# Altium footprint library Public Library.PcbLib: 36 footprints (part 1 of 3)
Each footprint in its own frame and in the unit in brackets; x right, y up, seen from the top. Pads: shape width x height; smd on the part's side, far side on the other; paste and mask are expansions set on the pad; w line width, h text height; cw(c..) or ccw(c..) is an arc to the next point about the centre after c.
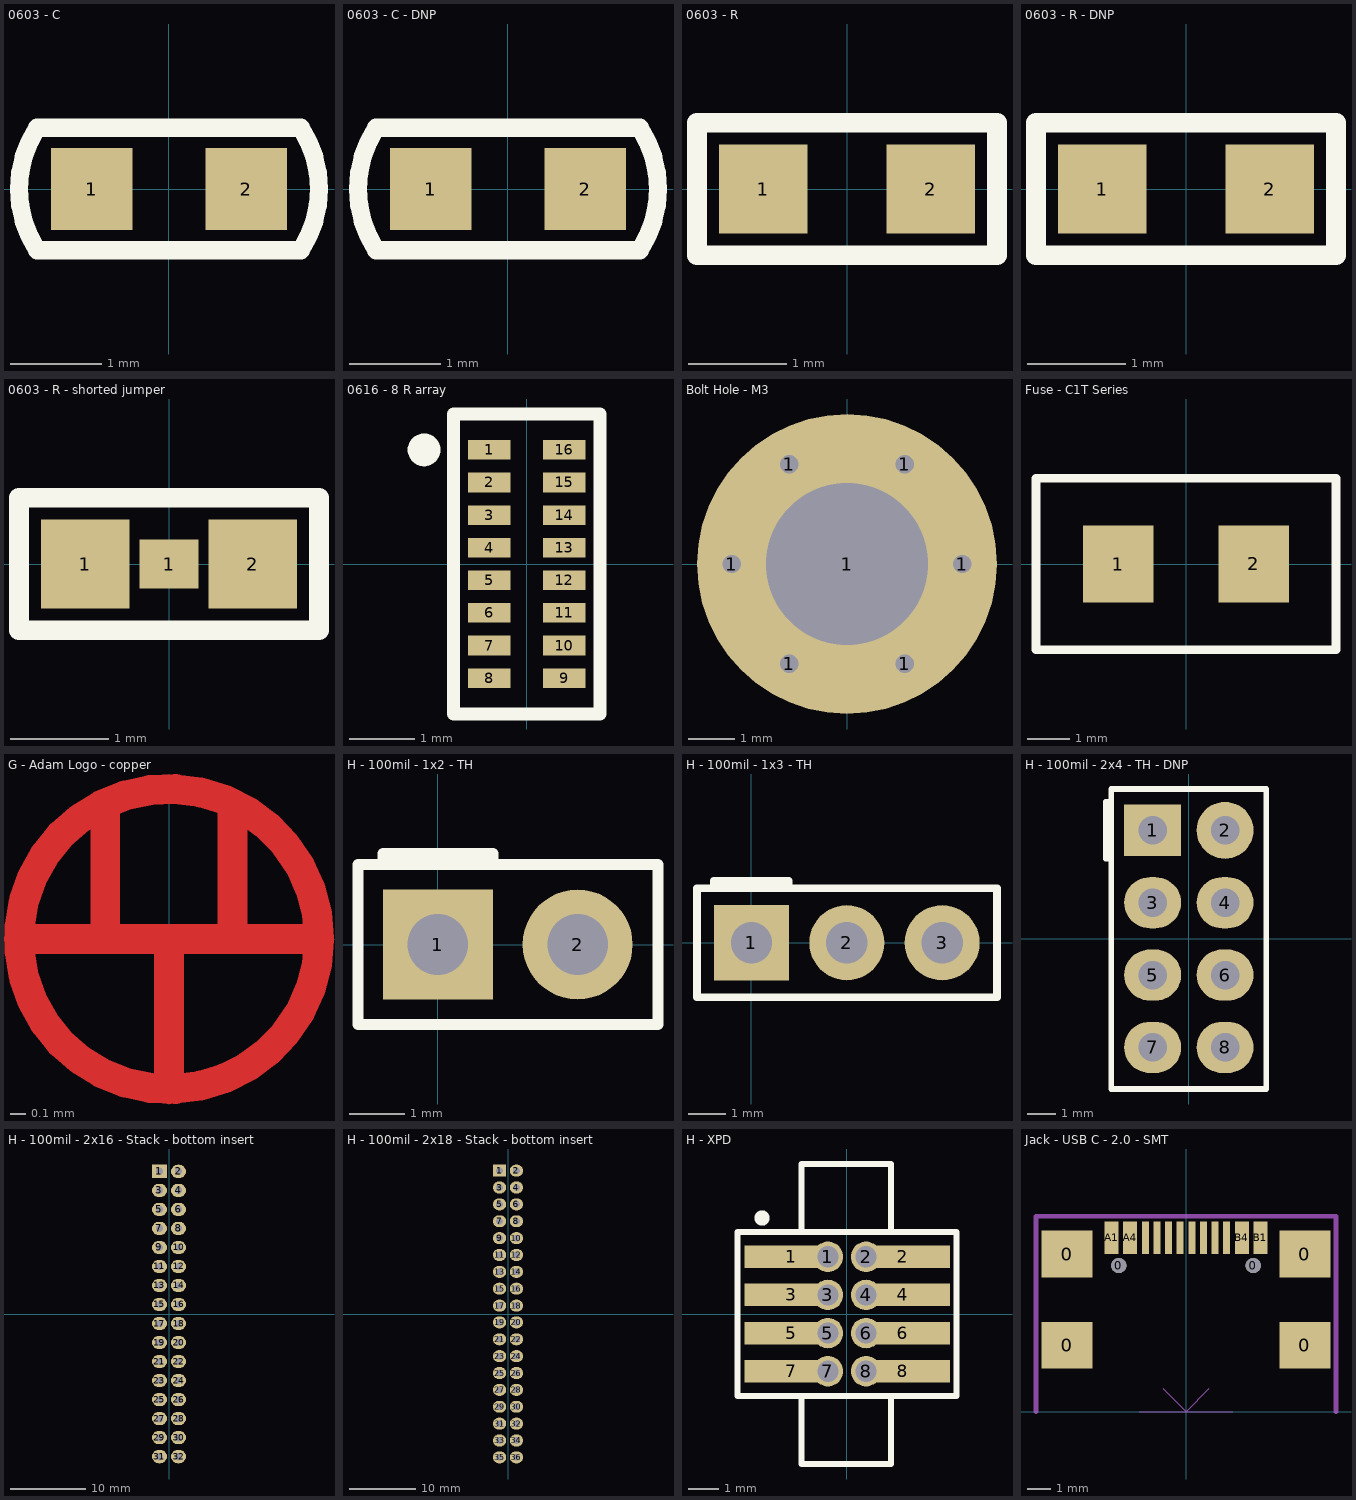
[diagram p0: the footprints below, top view; thin cyan lines are the x and y axes]

## 0603 - C [mm] "from Yageo R"
pads (2):
  rect 0.9x0.9 smd mask+0.05: 1(-0.85,0) 2(0.85,0)
Top Overlay:
  lines w0.2: -1.45,-0.675 cw(c-0.417,0) -1.45,0.675 1.45,0.675 cw(c0.417,0) 1.45,-0.675 -1.45,-0.675
3D body "ceramic_cap_0603.stp": height 0.85, standoff 0, extent -0.8,-0.4 0.8,0.4

## 0603 - C - DNP [mm] "from Yageo R"
pads (2):
  rect 0.9x0.9 smd mask+0.05: 1(-0.85,0) 2(0.85,0)
Top Overlay:
  lines w0.2: -1.45,-0.675 cw(c-0.417,0) -1.45,0.675 1.45,0.675 cw(c0.417,0) 1.45,-0.675 -1.45,-0.675

## 0603 - R [mm] "from Yageo"
pads (2):
  rect 0.9x0.9 smd mask+0.05: 1(-0.85,0) 2(0.85,0)
Top Overlay:
  lines w0.2: -1.525,-0.675 -1.525,0.675 1.525,0.675 1.525,-0.675 -1.525,-0.675
3D body "R 0603.step": height 0.4, standoff 0, extent -0.8,-0.4 0.8,0.4

## 0603 - R - DNP [mm] "from Yageo"
pads (2):
  rect 0.9x0.9 smd mask+0.05: 1(-0.85,0) 2(0.85,0)
Top Overlay:
  lines w0.2: -1.525,-0.675 -1.525,0.675 1.525,0.675 1.525,-0.675 -1.525,-0.675

## 0603 - R - shorted jumper [mm] "from Yageo"
pads (3):
  rect 0.9x0.9 smd mask+0.05: 1(-0.85,0) 2(0.85,0)
  rect 0.6x0.5 smd mask+0.1: 1(0,0)
Top Overlay:
  lines w0.2: -1.525,-0.675 1.525,-0.675 1.525,0.675 -1.525,0.675 -1.525,-0.675

## 0616 - 8 R array [mm] "from YC248J-100CT-ND"
pads (16):
  rect 0.65x0.3 smd mask+0.05: 1(-0.575,1.75) 2(-0.575,1.25) 3(-0.575,0.75) 4(-0.575,0.25) 5(-0.575,-0.25) 6(-0.575,-0.75) 7(-0.575,-1.25) 8(-0.575,-1.75) 9(0.575,-1.75) 10(0.575,-1.25) 11(0.575,-0.75) 12(0.575,-0.25) 13(0.575,0.25) 14(0.575,0.75) 15(0.575,1.25) 16(0.575,1.75)
Top Overlay:
  circle w0.254: c-1.575,1.75 r0.125
  lines w0.2: -1.125,-2.3 1.125,-2.3 1.125,2.3 -1.125,2.3 -1.125,-2.3
3D body "YC248.step": height 0.45, standoff 0, extent -0.8,-2 0.8,2

## Bolt Hole - M3 [mm]
pads (7):
  round 0.8 hole 0.4 mask+0.05: 1(-2.5,0) 1(-1.25,-2.165) 1(-1.25,2.165) 1(1.25,-2.165) 1(1.25,2.165) 1(2.5,0)
  round 6.5 hole 3.5 mask+0.05: 1(0,0)

## Fuse - C1T Series [mm]
pads (2):
  rect 1.64x1.8 smd mask+0.05: 1(-1.58,-0.001) 2(1.58,0.001)
Top Overlay:
  lines w0.2: -3.5,-2 -3.5,2 3.5,2 3.5,-2 -3.5,-2
3D body: height 0.83, standoff 0, extent -1.7,-0.89 1.7,0.89

## G - Adam Logo - copper [mm]
Top Layer:
  circle w0.2: c0,0 r1
  lines w0.2: -1,0 1,0 ; -0.425,0 -0.425,0.85 ; 0,-1 0,0 ; 0.425,0.025 0.425,0.85

## H - 100mil - 1x2 - TH [mm] "generic"
pads (2):
  rect 2x2 hole 1.1 mask+0.05: 1(0,0)
  round 2 hole 1.1 mask+0.05: 2(2.54,0)
Top Overlay:
  lines w0.2: -1,1.45 -1,1.65 1,1.65 1,1.45 ; -1,1.55 1,1.55 ; -1.45,-1.45 -1.45,1.45 4,1.45 4,-1.45 -1.45,-1.45
3D body "Pin Header 1x2 TH Pitch 2.54mm.stp": height 9.5, standoff -3.2, extent -1.27,-1.27 3.81,1.27

## H - 100mil - 1x3 - TH [mm] "generic"
pads (3):
  rect 2x2 hole 1.1 mask+0.05: 1(0,0)
  round 2 hole 1.1 mask+0.05: 2(2.54,0) 3(5.08,0)
Top Overlay:
  lines w0.2: -1,1.45 -1,1.65 1,1.65 1,1.45 ; -1,1.55 1,1.55 ; -1.45,-1.45 6.54,-1.45 6.54,1.45 -1.45,1.45 -1.45,-1.45
3D body "Pin Header 1x3 TH Pitch 2.54mm.stp": height 9.5, standoff -3.2, extent -1.27,-1.27 6.35,1.27

## H - 100mil - 2x4 - TH - DNP [mm] "generic"
pads (8):
  rect 2x1.8 hole 1 mask+0.05: 1(-1.27,3.81)
  round 2 hole 1 mask+0.05: 2(1.27,3.81)
  oval 2x1.8 hole 1 mask+0.05: 3(-1.27,1.27) 4(1.27,1.27) 5(-1.27,-1.27) 6(1.27,-1.27) 7(-1.27,-3.81) 8(1.27,-3.81)
Top Overlay:
  lines w0.2: -2.82,2.81 -2.82,4.81 ; -2.72,2.81 -2.92,2.81 -2.92,4.81 -2.72,4.81 ; -2.72,-5.27 -2.72,5.26 2.72,5.26 2.72,-5.27 -2.72,-5.27

## H - 100mil - 2x16 - Stack - bottom insert [mm]
pads (32):
  rect 2x1.8 hole 1 mask+0.05: 1(-1.27,19.05)
  oval 2x1.8 hole 1 mask+0.05: 2(1.27,19.05) 3(-1.27,16.51) 4(1.27,16.51) 5(-1.27,13.97) 6(1.27,13.97) 7(-1.27,11.43) 8(1.27,11.43) 9(-1.27,8.89) 10(1.27,8.89) 11(-1.27,6.35) 12(1.27,6.35) 13(-1.27,3.81) 14(1.27,3.81) 15(-1.27,1.27) 16(1.27,1.27) 17(-1.27,-1.27) 18(1.27,-1.27) 19(-1.27,-3.81) 20(1.27,-3.81) 21(-1.27,-6.35) 22(1.27,-6.35) 23(-1.27,-8.89) 24(1.27,-8.89) 25(-1.27,-11.43) 26(1.27,-11.43) 27(-1.27,-13.97) 28(1.27,-13.97) 29(-1.27,-16.51) 30(1.27,-16.51) 31(-1.27,-19.05) 32(1.27,-19.05)
3D body "SSQ-116-03-T-D.stp": height 8.31, standoff -10.21, extent -2.477,-20.574 2.477,20.574

## H - 100mil - 2x18 - Stack - bottom insert [mm]
pads (36):
  rect 2x1.8 hole 1 mask+0.05: 1(-1.27,21.59)
  oval 2x1.8 hole 1 mask+0.05: 2(1.27,21.59) 3(-1.27,19.05) 4(1.27,19.05) 5(-1.27,16.51) 6(1.27,16.51) 7(-1.27,13.97) 8(1.27,13.97) 9(-1.27,11.43) 10(1.27,11.43) 11(-1.27,8.89) 12(1.27,8.89) 13(-1.27,6.35) 14(1.27,6.35) 15(-1.27,3.81) 16(1.27,3.81) 17(-1.27,1.27) 18(1.27,1.27) 19(-1.27,-1.27) 20(1.27,-1.27) 21(-1.27,-3.81) 22(1.27,-3.81) 23(-1.27,-6.35) 24(1.27,-6.35) 25(-1.27,-8.89) 26(1.27,-8.89) 27(-1.27,-11.43) 28(1.27,-11.43) 29(-1.27,-13.97) 30(1.27,-13.97) 31(-1.27,-16.51) 32(1.27,-16.51) 33(-1.27,-19.05) 34(1.27,-19.05) 35(-1.27,-21.59) 36(1.27,-21.59)
3D body "SSQ-118-03-T-D.stp": height 8.31, standoff -10.21, extent -2.477,-23.114 2.477,23.114

## H - XPD [mm]
pads (16):
  rect 3.12x0.75 smd mask+0.05: 1(-1.865,1.905) 2(1.865,1.905) 3(-1.865,0.635) 4(1.865,0.635) 5(-1.865,-0.635) 6(1.865,-0.635) 7(-1.865,-1.905) 8(1.865,-1.905)
  round 1.016 hole 0.711 mask+0.05: 1(-0.635,1.905) 2(0.635,1.905) 3(-0.635,0.635) 4(0.635,0.635) 5(-0.635,-0.635) 6(0.635,-0.635) 7(-0.635,-1.905) 8(0.635,-1.905)
Top Overlay:
  circle w0.254: c-2.83,3.2 r0.125
  lines w0.2: -1.525,-2.725 -1.525,-5 1.475,-5 1.475,-2.725 ; -1.525,2.725 -1.525,5 1.475,5 1.475,2.725 ; -3.65,-2.725 3.65,-2.725 3.65,2.725 -3.65,2.725 -3.65,-2.725
3D body "FTS-104-01-L-DV.stp": height 4.31, standoff -0.01, extent -2.946,-2.54 2.896,2.54

## Jack - USB C - 2.0 - SMT [mm] "from 2073-USB4110-GF-A-1-ND"
pads (18):
  rect 2.2x2 smd mask+0.05: 0(-5.11,2.85) 0(-5.11,6.78) 0(5.11,2.85) 0(5.11,6.78)
  round 0.65 hole 0.65 mask+0.05: 0(-2.89,6.28) 0(2.89,6.28)
  rect 0.6x1.4 smd mask+0.05: A1(-3.2,7.48) A4(-2.4,7.48) B1(3.2,7.48) B4(2.4,7.48)
  rect 0.3x1.4 smd mask+0.05: A5(-1.25,7.48) A6(-0.25,7.48) A7(0.25,7.48) A8(1.25,7.48) B5(1.75,7.48) B6(0.75,7.48) B7(-0.75,7.48) B8(-1.75,7.48)
Mechanical 3:
  lines w0.05: -2,0 2,0 ; -1,1 0,0 1,1
Mechanical 4:
  lines w0.2: -6.45,0 -6.45,8.4 6.45,8.4 6.45,0
3D body "USB4110-GF-A.stp": height 3.25, standoff -0.7, extent -5.65,0 5.65,7.676